# Altium footprint library 16 MHz Crystal.PcbLib: 1 footprints
Each footprint in its own frame and in the unit in brackets; x right, y up, seen from the top. Pads: shape width x height; smd on the part's side, far side on the other; paste and mask are expansions set on the pad; w line width, h text height; cw(c..) or ccw(c..) is an arc to the next point about the centre after c.
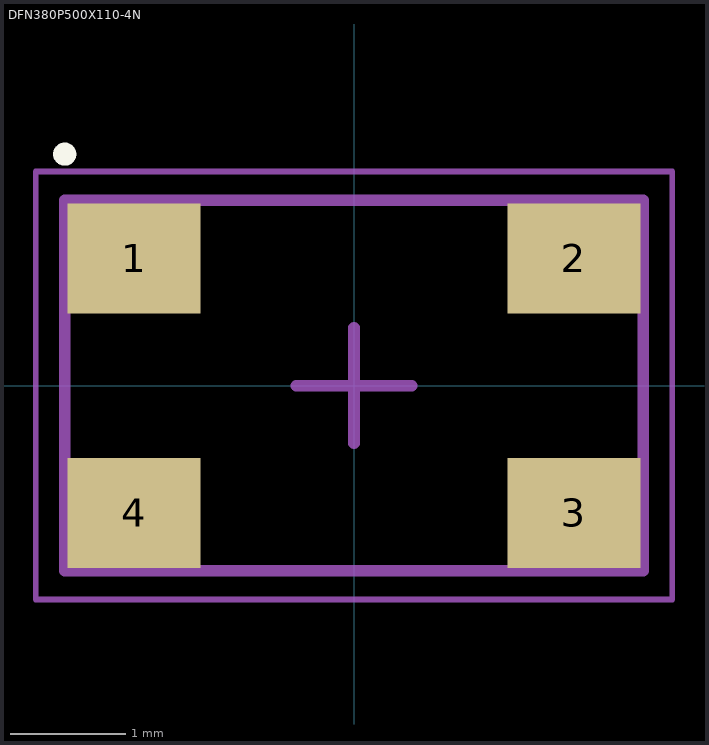
[diagram p0: the footprint, top view; thin cyan lines are the x and y axes]

## DFN380P500X110-4N [mm] "DFN, 4-Leads, Body 3.20x5.00mm, Pitch 3.80mm, IPC Medium Density"
height 1.1
pads (4):
  rect 1.15x0.95 smd: 1(-1.9,1.1) 2(1.9,1.1) 3(1.9,-1.1) 4(-1.9,-1.1)
Top Overlay:
  circle w0.1: c-2.5,2 r0.05
Mechanical 13:
  lines w0.1: -2.5,-1.6 2.5,-1.6 2.5,1.6 -2.5,1.6 -2.5,-1.6
Mechanical 15:
  lines w0.05: -2.75,-1.85 2.75,-1.85 2.75,1.85 -2.75,1.85 -2.75,-1.85
  lines w0.1: -0.5,0 0.5,0 ; 0,-0.5 0,0.5
3D body: height 1.1, standoff 0, extent -2.5,-1.6 2.5,1.6